# Altium integrated library Zarlink Comm Communication Interface.IntLib: 4 symbols
Pins are listed as number, name and electrical type; pins without a type are passive.

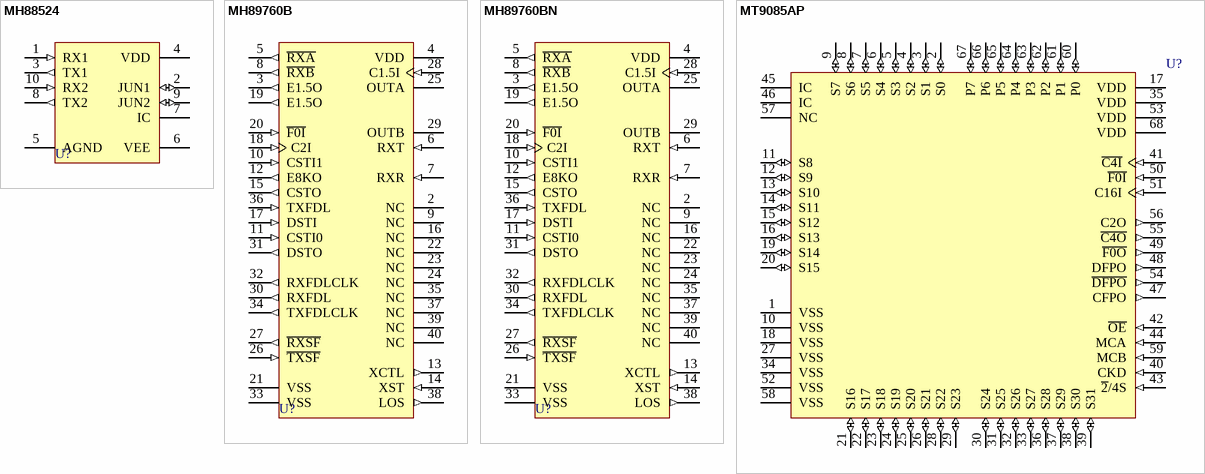
[diagram p0: symbols MH88524 to MT9085AP]

## MH88524
designator U?
Dual 2-4 Wire Circuit; Note: Pin 7 is internally connected; ComponentAvailability: Obsolete; Published: 8-Jun-2000; LatestRevisionDate: 17-Jul-2002; LatestRevisionNote: Re-released for DXP Platform.; DatasheetVersion: Issue 4 April 1995; PackageVersion: Apr-1995; PackageReference: SIL10; Publisher: Altium Limited; PackageDescription: SIP; 10 Leads; Body 25.4 x 4.6 mm (LxW typ); Pitch 2.54 mm; ComponentLink1Description: Manufacturer Link; ComponentLink1URL: http://products.zarlink.com; ComponentLink2Description: Datasheet; ComponentLink2URL: http://assets.zarlink.com/DS/zarlink_MH88524_JAN_02.pdf
footprint SIL10 (SIP; 10 Leads; Body 25.4 x 4.6 mm (LxW typ); Pitch 2.54 mm)
pins: 1 RX1 (in), 2 JUN1 (io), 3 TX1 (out), 4 VDD (power), 5 AGND (power), 6 VEE (power), 7 IC, 8 TX2 (out), 9 JUN2 (io), 10 RX2 (in)

## MH89760B
designator U?
T1/ESF Framer & Interface; Note: Pin 1 is not present; ComponentAvailability: Not for New Design; Published: 8-Jun-2000; LatestRevisionDate: 17-Jul-2002; LatestRevisionNote: Re-released for DXP Platform.; DatasheetVersion: Issue 5 May 1995; PackageReference: DIL40B; Publisher: Altium Limited; PackageDescription: DIP; 40 Leads (1 Absent); Row Spacing 33 mm; Pitch 2.54 mm; ComponentLink1Description: Manufacturer Link; ComponentLink1URL: http://products.zarlink.com; ComponentLink2Description: Datasheet; ComponentLink2URL: http://assets.zarlink.com/DS/zarlink_MH89760B_JAN_02.pdf; ComponentLink3Description: Discontinuation Notice; ComponentLink3URL: http://assets.zarlink.com/OC/MH89760B_Obsolescence_Notice___Customer.doc
footprint DIL40B (DIP; 40 Leads (1 Absent); Row Spacing 33 mm; Pitch 2.54 mm)
pins: 2 NC, 3 E1.5O (out), 4 VDD (power), 5 ~{RXA} (out), 6 RXT (in), 7 RXR (in), 8 ~{RXB} (out), 9 NC, 10 CSTI1 (in), 11 CSTI0 (in), 12 E8KO (out), 13 XCTL (out), 14 XST (in), 15 CSTO (out), 16 NC, 17 DSTI (in), 18 C2I (in), 19 E1.5O (out), 20 ~{F0I} (in), 21 VSS (power), 22 NC, 23 NC, 24 NC, 25 OUTA (oc), 26 ~{TXSF} (in), 27 ~{RXSF} (out), 28 C1.5I (in), 29 OUTB (oc), 30 RXFDL (out), 31 DSTO (out), 32 RXFDLCLK (out), 33 VSS, 34 TXFDLCLK (out), 35 NC, 36 TXFDL (in), 37 NC, 38 LOS (out), 39 NC, 40 NC

## MH89760BN
designator U?
T1/ESF Framer & Interface; Note: Pin 1 is not present; ComponentAvailability: Not for New Design; Published: 8-Jun-2000; LatestRevisionDate: 17-Jul-2002; LatestRevisionNote: Re-released for DXP Platform.; DatasheetVersion: Issue 5 May 1995; PackageReference: DIL40C; Publisher: Altium Limited; PackageDescription: DIP; 40 Leads (1 Absent); Row Spacing 20.32 mm; Pitch 2.54 mm; ComponentLink1Description: Manufacturer Link; ComponentLink1URL: http://products.zarlink.com; ComponentLink2Description: Datasheet; ComponentLink2URL: http://assets.zarlink.com/DS/zarlink_MH89760B_JAN_02.pdf; ComponentLink3Description: Discontinuation Notice; ComponentLink3URL: http://assets.zarlink.com/OC/MH89760B_Obsolescence_Notice___Customer.doc
footprint DIL40C (DIP; 40 Leads (1 Absent); Row Spacing 20.32 mm; Pitch 2.54 mm)
pins: 2 NC, 3 E1.5O (out), 4 VDD (power), 5 ~{RXA} (out), 6 RXT (in), 7 RXR (in), 8 ~{RXB} (out), 9 NC, 10 CSTI1 (in), 11 CSTI0 (in), 12 E8KO (out), 13 XCTL (out), 14 XST (in), 15 CSTO (out), 16 NC, 17 DSTI (in), 18 C2I (in), 19 E1.5O (out), 20 ~{F0I} (in), 21 VSS (power), 22 NC, 23 NC, 24 NC, 25 OUTA (oc), 26 ~{TXSF} (in), 27 ~{RXSF} (out), 28 C1.5I (in), 29 OUTB (oc), 30 RXFDL (out), 31 DSTO (out), 32 RXFDLCLK (out), 33 VSS, 34 TXFDLCLK (out), 35 NC, 36 TXFDL (in), 37 NC, 38 LOS (out), 39 NC, 40 NC

## MT9085AP
designator U?
PAC-Parallel Access Circuit; Note: IC Pin 45 must be tied to VSS;  IC pin 46 should be lrft unconnected.; Published: 8-Jun-2000; LatestRevisionDate: 13-Apr-2006; LatestRevisionNote: IPC-7351 Footprint Added.; DatasheetVersion: Issue 3 January 1993; PackageVersion: 1997; PackageReference: PLCC68; Publisher: Altium Limited; PackageDescription: 68-Pin Leaded Chip Carrier 1.27 mm Pitch; Code_IPC: PLCC-68; ComponentLink1Description: Manufacturer Link; ComponentLink1URL: http://products.zarlink.com
footprint PLCC68_N (Leaded Chip Carrier, 68-Leads, Body 24x24mm, Pitch 1.27mm, IPC Medium Density)
footprint PLCC68_L (Leaded Chip Carrier, 68-Leads, Body 24x24mm, Pitch 1.27mm, IPC High Density)
footprint PLCC68_M (Leaded Chip Carrier, 68-Leads, Body 24x24mm, Pitch 1.27mm, IPC Low Density)
pins: 1 VSS (power), 2 S0 (io), 3 S1 (io), 4 S2 (io), 5 S3 (io), 6 S4 (io), 7 S5 (io), 8 S6 (io), 9 S7 (io), 10 VSS (power), 11 S8 (io), 12 S9 (io), 13 S10 (io), 14 S11 (io), 15 S12 (io), 16 S13 (io), 17 VDD (power), 18 VSS (power), 19 S14 (io), 20 S15 (io), 21 S16 (io), 22 S17 (io), 23 S18 (io), 24 S19 (io), 25 S20 (io), 26 S21 (io), 27 VSS (power), 28 S22 (io), 29 S23 (io), 30 S24 (io), 31 S25 (io), 32 S26 (io), 33 S27 (io), 34 VSS (power), 35 VDD (power), 36 S28 (io), 37 S29 (io), 38 S30 (io), 39 S31 (io), 40 CKD (in), 41 ~{C4I} (in), 42 ~{OE} (in), 43 ~{2}/4S (in), 44 MCA (in), 45 IC, 46 IC, 47 CFPO (out), 48 DFPO (out), 49 ~{F0O} (out), 50 ~{F0I} (in), 51 C16I (in), 52 VSS (power), 53 VDD (power), 54 ~{DFPO} (out), 55 ~{C4O} (out), 56 C2O (out), 57 NC, 58 VSS (power), 59 MCB (in), 60 P0 (io), 61 P1 (io), 62 P2 (io), 63 P3 (io), 64 P4 (io), 65 P5 (io), 66 P6 (io), 67 P7 (io), 68 VDD (power)